# Altium schematic symbol library RN73H1ETTP8352F25.SchLib: 1 symbol
Pins are listed as number, name and electrical type; pins without a type are passive.

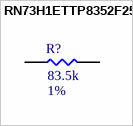
[diagram p0: symbol RN73H1ETTP8352F25]

## RN73H1ETTP8352F25
designator R?  Resistance: 83.5k  Tolerance: 1%  (hidden comment: RN73H1ETTP8352F25)
RES 83.5K OHM 1% 1/16W 0402; MFR: KOA Speer Electronics, Inc.; PN: RN73H1ETTP8352F25; Footprint: RES0402; Package: 0402; ComponentLink1Description: Datasheet; ComponentLink1URL: http://www.koaspeer.com/pdfs/RN73H.pdf; Power Rating: 1/16W; Supplier 1: Mouser; Supplier Part Number 1: 660-RN73H1ETP8352F25
footprint RES0402 (Generic 0402 PCB Footprint)
pins: 1, 2